# Altium schematic symbol library SX1268.SchLib: 1 symbol
Pins are listed as number, name and electrical type; pins without a type are passive.

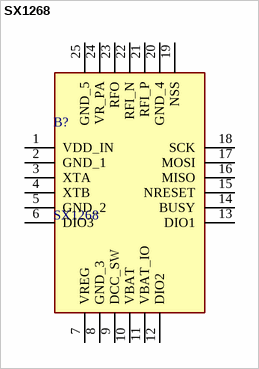
[diagram p0: symbol SX1268]

## SX1268
designator B?
LoRa Connect Long Range Low Power LoRa Transceiver +22dBm, China frequency bands; Manufacturer_Name: SEMTECH; Geometry.Height: 1mm; Manufacturer_Part_Number: SX1268; Mouser Part Number: *; Mouser Price/Stock: *; Arrow Part Number: *; Arrow Price/Stock: *; Datasheet Link: https://semtech.my.salesforce.com/sfc/p/E0000000JelG/a/2R000000HTIE/.wr7MYcDJegmsXUflvtVGp7PiqAzdCaqRKXqRr3J8Y4
footprint QFN50P400X400X100-25N-D
pins: 1 VDD_IN, 2 GND_1, 3 XTA, 4 XTB, 5 GND_2, 6 DIO3, 7 VREG, 8 GND_3, 9 DCC_SW, 10 VBAT, 11 VBAT_IO, 12 DIO2, 13 DIO1, 14 BUSY, 15 NRESET, 16 MISO, 17 MOSI, 18 SCK, 19 NSS, 20 GND_4, 21 RFI_P, 22 RFI_N, 23 RFO, 24 VR_PA, 25 GND_5